# EAGLE library part ADAFRUIT-MAX31855-BREAKOUT-BOARD (library BOBs)
Thermocouple Amplifier MAX31855 breakout board (MAX6675 upgrade)
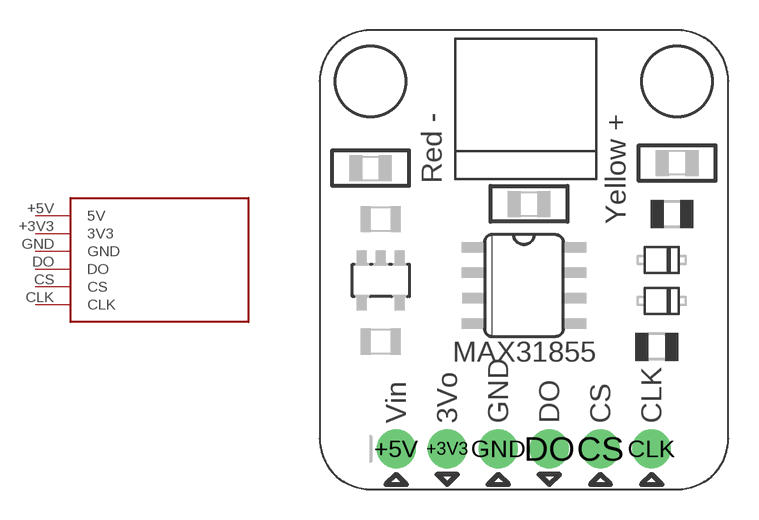
[diagram p1: symbol with the pads of ADAFRUIT-MAX31855-BREAKOUT-BOARD; footprint ADAFRUIT-MAX31855-BREAKOUT-BOARD]

Designator prefix -

## ADAFRUIT-MAX31855-BREAKOUT-BOARD-BOB (DIST: Adafruit; DISTPN: 269)  [ADAFRUIT-MAX31855-BREAKOUT-BOARD]
+3V3  3V3
+5V  5V
CLK  CLK
CS  CS
DO  DO
GND  GND

## Footprint ADAFRUIT-MAX31855-BREAKOUT-BOARD (pad centres in mm)
drill 1 pad 1.93: +3V3 6.35,2.032; +5V 3.81,2.032; CLK 16.51,2.032; CS 13.97,2.032; DO 11.43,2.032; GND 8.89,2.032